# EAGLE library part CA-IS1044S (library CRS_EAGLE_Lib)
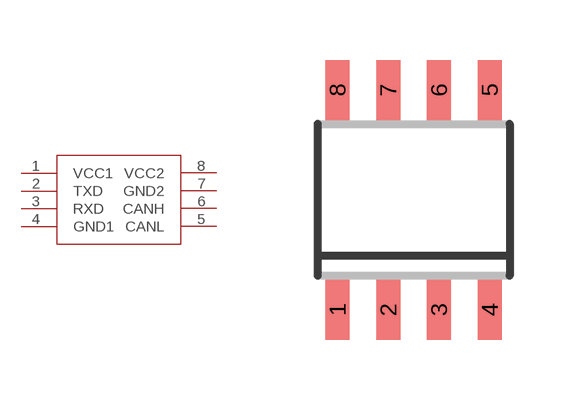
[diagram p1: symbol with the pads of SOIC8; footprint SOIC8]

Designator prefix -

## CA-IS1044S  [SOIC8]
1  VCC1
2  TXD
3  RXD
4  GND1
5  CANL
6  CANH
7  GND2
8  VCC2

## Footprint SOIC8 (pad centres in mm)
SOIC-8 CASE 751-07 Source: http://www.onsemi.com/pub/Collateral/MC34164-D.PDF D (R-PDSO-G8)PLATIC SMALL-OUTLINE PACKAGE Source: http://focus.ti.com/lit/ds/symlink/tlc27l2.pdf
smd 0.6 x 1.5: 1 -1.905,-2.75; 2 -0.635,-2.75; 3 0.635,-2.75; 4 1.905,-2.75; 5 1.905,2.75; 6 0.635,2.75; 7 -0.635,2.75; 8 -1.905,2.75